# Altium integrated library LPC4357_SDRAM-BGA.IntLib: 27 symbols
Pins are listed as number, name and electrical type; pins without a type are passive.

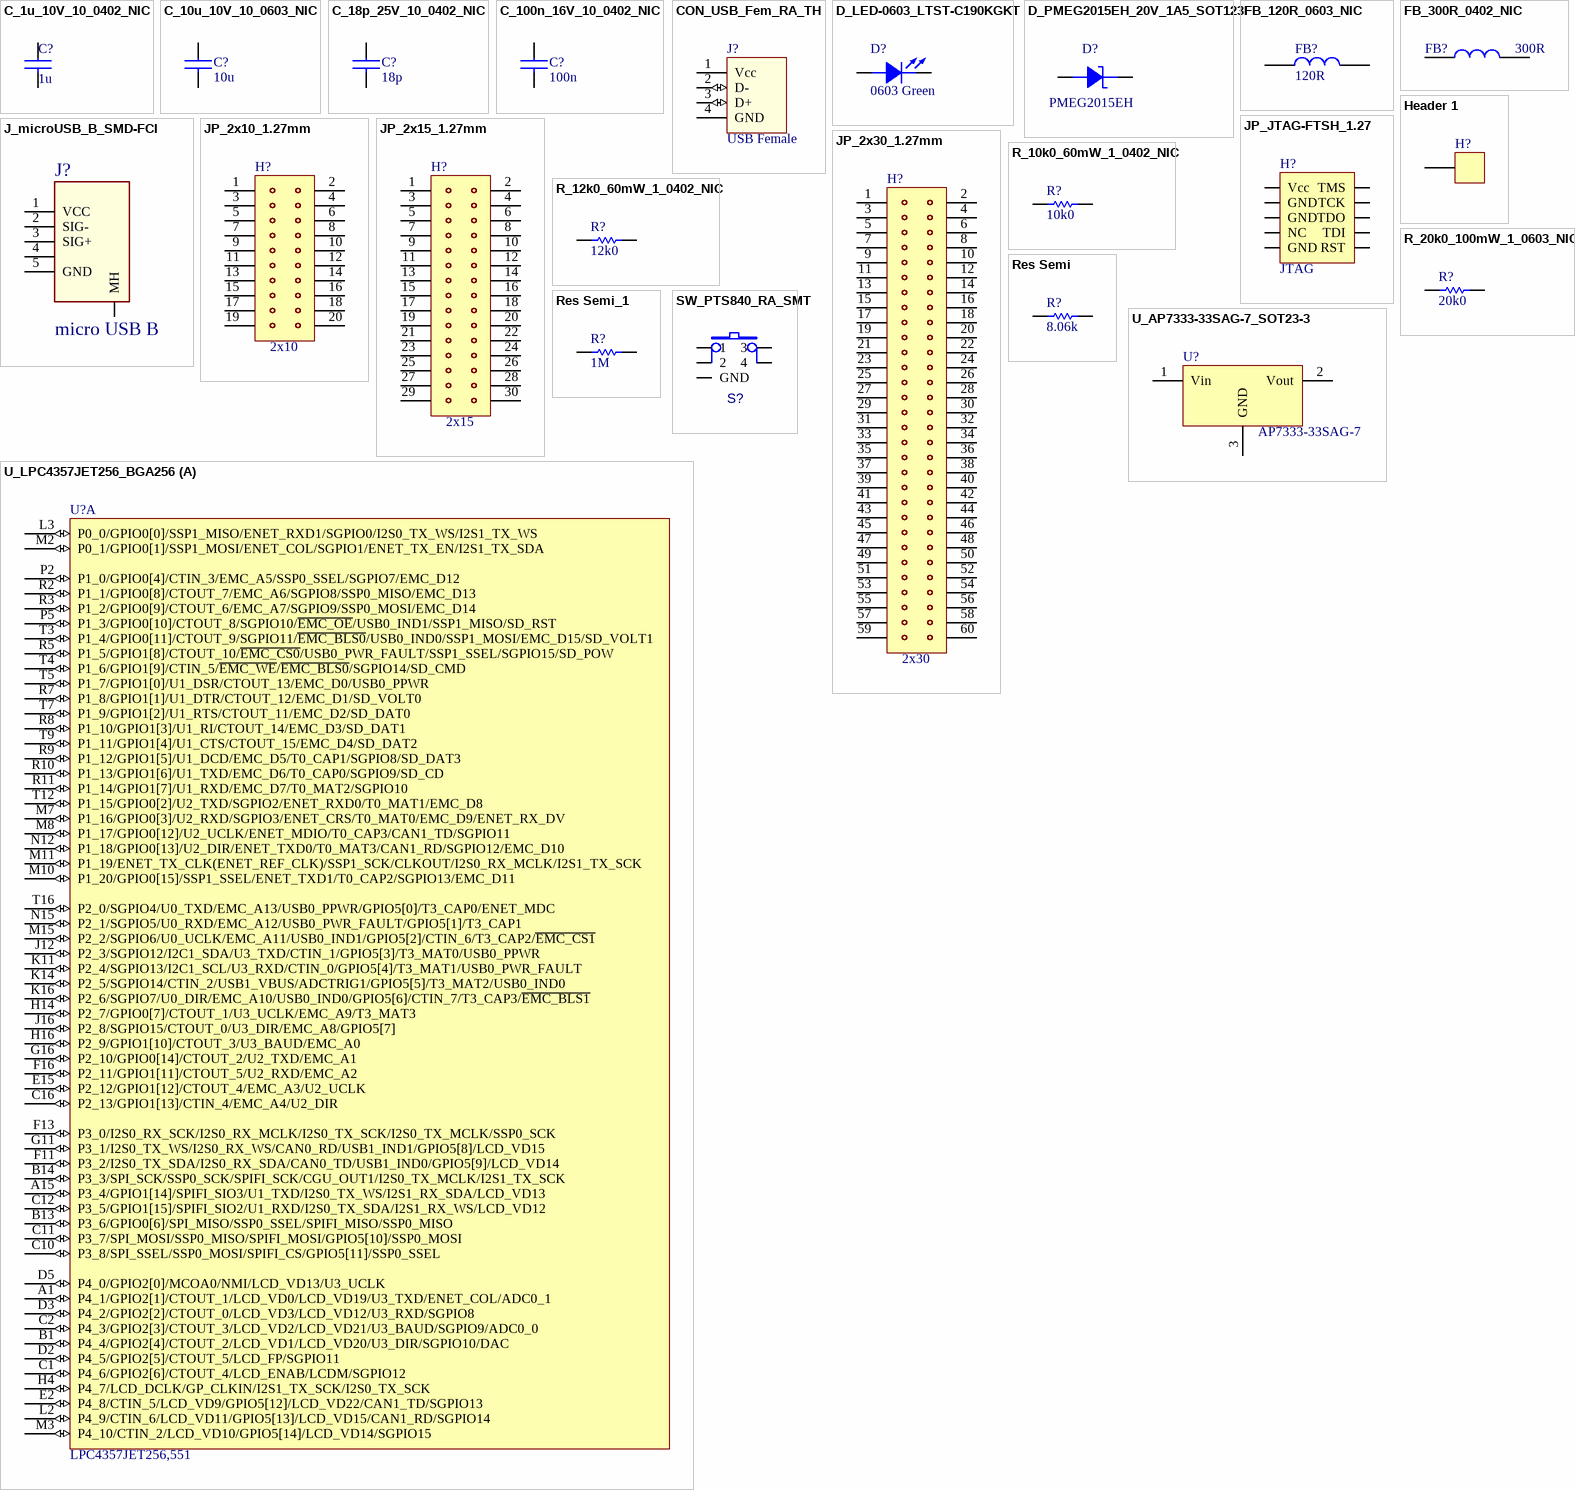
[diagram p0: symbols C_1u_10V_10_0402_NIC to U_LPC4357JET256_BGA256]

## C_1u_10V_10_0402_NIC
designator C?, comment 1u
Cap, Chip, 1uF, 10V, 10%, X5R, 0402; Manufacturer: NIC; Manufacturer_No: NMC0402X5R105K10TRPF; PB-free: Yes; IOT: IOT-; Dist_No: NMC0402X5R105K10TRPF; Distributor: Avnet; HelpURL: http://www.niccomp.com/catalog/nmc2.pdf; Price: 0.0056
footprint C_0402 (Capacitor 0402)
pins: 1, 2

## C_10u_10V_10_0603_NIC
designator C?, comment 10u
Cap, Chip, 10uF, 10V, ± 15%, X5R, 0603; Manufacturer: NIC; Manufacturer_No: NMC0603X5R106K10TRPF; PB-free: Yes; Dist_No: NMC0603X5R106K10TRPF; Distributor: NIC; HelpURL: http://www.niccomp.com/catalog/nmc1.pdf; Price: 0.02; IOT: IOT-0719
footprint C_0603 (Capacitor 0603)
footprint 0603x55 (0603 (1608) resistor 0.55mm height)
footprint 0603X90 (0603 (1608) capacitor 0.90 height)
pins: 1, 2

## C_18p_25V_10_0402_NIC
designator C?, comment 18p
Cap, Chip, 18pF, 25V, 10%, NPO 0402; Manufacturer: NIC; Manufacturer_No: NMC0402NPO180J25TRPF; HelpURL: http://www.niccomp.com/catalog/nmc1.pdf; IOT: IOT-0056
footprint C_0402 (Capacitor 0402)
pins: 1, 2

## C_100n_16V_10_0402_NIC
designator C?, comment 100n
Cap, Chip, 100nF, 16V, +/-10%, X7R, 0402; Manufacturer: NIC; Manufacturer_No: NMC0402X7R104K16TRPF; PB-free: Yes; HelpURL: http://www.niccomp.com/catalog/nmc3.pdf; IOT: IOT-0301
footprint C_0402 (Capacitor 0402)
pins: 1, 2

## CON_USB_Fem_RA_TH
designator J?, comment USB Female
USB A Female, RA, TH; Manufacturer: Venice Group; Manufacturer_No: USBAFDIP-024; Supplier 1: Digi-Key; Supplier Part Number 1: UE27AC54100-ND
footprint USB_A_F_RA_TH (Venice Group USB A Female, RA, TH)
pins: 1 Vcc (power) "Vbus", 2 D- (io) "Data -", 3 D+ (io) "Data +", 4 GND (power) "Ground"

## D_LED-0603_LTST-C190KGKT
designator D?, comment 0603 Green
0603 LED, Green; Manufacturer: Lite-on; Dist_No: LTST-C190KGKT; PB-free: Yes; Distributor: Avnet; Manufacturer_No: LTST-C190KGKT; HelpURL: http://optoelectronics.liteon.com/upload/download/DS22-2000-074/S_110_LTST-C190KGKT.pdf; Price: 0.0376; IOT: IOT-0171; Supplier 1: Digi-Key; Supplier Part Number 1: 160-1435-1-ND
footprint D_0603 (0603, 1.6 x 0.8mm, LED)
pins: 1 ANODE, 2 CATHODE

## D_PMEG2015EH_20V_1A5_SOT123F
designator D?, comment PMEG2015EH
Diode, Schottky Rectifier, 20V, 1.5A, SOT123F; Manufacturer: NXP Semiconductors; Manufacturer_No: PMEG2015EH T/R; Dist_No: 568-4116-1-ND; PB-free: Yes; Voltage: 20V; Distributor: DIGIKEY; HelpURL: http://www.nxp.com/acrobat_download/datasheets/PMEG2015EH_EJ_2.pdf; Price: 0.46000
footprint SOD123F (Footprint not found)
pins: 1 A, 2 K

## FB_120R_0603_NIC
designator FB?, comment 120R
Ferrite bead,120 ohm@100MHz,0.30 ohm @DC, 500mA, 0603; Manufacturer: NIC; Manufacturer_No: NCB0603R121TR060F; HelpURL: http://www.niccomp.com/catalog/ncb.pdf; Value: 120R; IOT: IOT-0083
footprint L_0603 (Inductior 0603)
footprint FB_0603-NIC (Ferrite Bead 0603)
pins: 1, 2

## FB_300R_0402_NIC
designator FB?, comment 300R
Ferrite bead,300 ohm@100MHz,0.15 ohm @DC, 1A, 0402; Manufacturer: NIC; Manufacturer_No: NCB-H0402P301TR100F; Distributor: NIC; Price: 0.01; HelpURL: http://www.niccomp.com/catalog/ncbh.pdf; Dist_No: NCB-H0402P301TR100F; Value: 300R; IOT: IOT-0720; Supplier 1: Digi-Key; Supplier Part Number 1: 490-5256-2-ND
footprint FB_0402-NIC (Chip Inductor, 2-Leads, Body 1.00x0.50mm, IPC High Density)
pins: 1, 2

## Header 1
designator H?
Header, 1-Pin
footprint HDR1X1
pins: 1

## J_microUSB_B_SMD-FCI
designator J?, comment micro USB B
CONN RECEPT MICRO USB RA 5POS SMD; Manufacturer: FCI; Manufacturer_No: 10118194
footprint 10118194 (FCI Micro USB B)
pins: 1 VCC, 2 SIG-, 3 SIG+, 4, 5 GND, MH "Shield"

## JP_2x10_1.27mm
designator H?, comment 2x10
CONN, Header, 2x10, TH, 1.27mm; PB-free: Yes; Price: 0.32
footprint HDR_2x10_1.27mm (LCSC 2x10 TH Female Header, 1.27mm pitch)
pins: 1, 2, 3, 4, 5, 6, 7, 8, 9, 10, 11, 12, 13, 14, 15, 16, 17, 18, 19, 20

## JP_2x15_1.27mm
designator H?, comment 2x15
CONN, Header, 2x15, TH, 1.27mm; PB-free: Yes; Distributor: LCSC; Price: 0.32; ComponentLink1Description: Datasheet; ComponentLink1URL: https://datasheet.lcsc.com/szlcsc/Shenzhen-Cankemeng-Female-header-2-30P-1-27mm-Straight-line_C124402.pdf
footprint HDR_2x15_1.27mm (LCSC 2x15 TH Female Header, 1.27mm pitch)
pins: 1, 2, 3, 4, 5, 6, 7, 8, 9, 10, 11, 12, 13, 14, 15, 16, 17, 18, 19, 20, 21, 22, 23, 24, 25, 26, 27, 28, 29, 30

## JP_2x30_1.27mm
designator H?, comment 2x30
CONN, Header, 2x30, TH, 1.27mm; Manufacturer: Shenzhen Cankemeng; Manufacturer_No: 220-1S-2*30; Dist_No: C124402; PB-free: Yes; Distributor: LCSC; Price: 0.32; HelpURL: https://lcsc.com/product-detail/Pin-Header-Female-Header_Shenzhen-Cankemeng-Female-header-2-30P-1-27mm-Straight-line_C124402.html; ComponentLink1Description: Datasheet; ComponentLink1URL: https://datasheet.lcsc.com/szlcsc/Shenzhen-Cankemeng-Female-header-2-30P-1-27mm-Straight-line_C124402.pdf
footprint HDR_2x30_1.27mm (LCSC 2x30 TH Female Header, 1.27mm pitch)
pins: 1, 2, 3, 4, 5, 6, 7, 8, 9, 10, 11, 12, 13, 14, 15, 16, 17, 18, 19, 20, 21, 22, 23, 24, 25, 26, 27, 28, 29, 30, 31, 32, 33, 34, 35, 36, 37, 38, 39, 40, 41, 42, 43, 44, 45, 46, 47, 48, 49, 50, 51, 52, 53, 54, 55, 56, 57, 58, 59, 60

## JP_JTAG-FTSH_1.27
designator H?, comment JTAG
CONN, Header 2x5, TH, 1.27mm; Manufacturer: Samtec; Manufacturer_No: FTSH-105-01-L-D-K; PB-free: Yes; Distributor: Heilind; Dist_No: FTSH-105-01-L-D-K; Price: $2.00; IOT: *
footprint JTAG_FTSH-105-01-XXX-D-K (ARM JTAG, Samtec FTSH-105-01-D-K)
pins: 1 Vcc, 2 TMS "Use PU", 3 GND, 4 TCK "Use PD", 5 GND, 6 TDO "Use PU", 7 NC, 8 TDI "Use PU", 9 GND, 10 RST "MCU Reset"

## R_10k0_60mW_1_0402_NIC
designator R?, comment 10k0
Resistor, 10.0 kΩ, 1%, 0.06W, 0402; Manufacturer_No: NRC04F1002TRF; Manufacturer: NIC; Value: 10k; HelpURL: http://www.niccomp.com/catalog/nrc.pdf; IOT: IOT-0100
footprint R_0402 (Resistor 0402)
simulation model Model Name (Model Description)
footprint R_0402-N (Chip Resistor, 2-Leads, Body 1.00x0.50mm, IPC High Density)
pins: 1, 2

## R_12k0_60mW_1_0402_NIC
designator R?, comment 12k0
Resistor 12.0 kΩ, 1%, 0.06W, 0402; Manufacturer_No: NRC04F1202TRF; Manufacturer: NIC; Value: 12k; HelpURL: http://www.niccomp.com/catalog/nrc.pdf; IOT: IOT-0101
footprint R_0402 (Resistor 0402)
simulation model Model Name (Model Description)
footprint R_0402-N (Chip Resistor, 2-Leads, Body 1.00x0.50mm, IPC High Density)
pins: 1, 2

## R_20k0_100mW_1_0603_NIC
designator R?, comment 20k0
Resistor 20 kOhm, 1%, 0.1W, 0603; Manufacturer_No: NRC06F2002TRF; Manufacturer: NIC; PB-free: Yes; Value: 20k; HelpURL: http://www.niccomp.com/catalog/nrc.pdf; Price: 0.0009
footprint R_0603 (Resistor0603)
simulation model Model Name (Model Description)
footprint R_0603 - NIC (Resistor 0603 NIC Pad Layout)
footprint RESC0603M (Chip Resistor, Body 0.6x0.3mm, IPC Low Density)
footprint RESC0603N (Chip Resistor, Body 0.6x0.3mm, IPC Medium Density)
footprint CR0603 (0603 (1608) resistor 0.55mm height)
footprint R_0402-N
pins: 1, 2

## Res Semi
designator R?, comment 8.06k
Resistor 8.06 kOhm, 1%, 0.1W, 0402; Value: 8k06
footprint RESC_0805
footprint R_0402 (Resistor 0402)
footprint R_0603 (Resistor0603)
footprint R_0603 - NIC (Resistor 0603 NIC Pad Layout)
footprint R_0805-small (Resistor, 0805, high density board design)
footprint R_1206 (Footprint 1206)
footprint R_0402-N (Chip Resistor, 2-Leads, Body 1.00x0.50mm, IPC High Density)
footprint CR0603 (0603 (1608) resistor 0.55mm height)
footprint Res_TH_9mm-spacing
pins: 1, 2

## Res Semi_1
designator R?, comment 1M
Semiconductor Resistor; Value: 33
footprint RESC_0805
footprint R_0402 (Resistor 0402)
footprint R_0603 (Resistor0603)
footprint R_0603 - NIC (Resistor 0603 NIC Pad Layout)
footprint R_0805-small (Resistor, 0805, high density board design)
footprint R_1206 (Footprint 1206)
footprint R_0402-N (Chip Resistor, 2-Leads, Body 1.00x0.50mm, IPC High Density)
footprint CR0603 (0603 (1608) resistor 0.55mm height)
footprint Res_TH_9mm-spacing
pins: 1, 2

## SW_PTS840_RA_SMT
designator S?, comment PTS840  (value not drawn)
SWITCH SPST RA, 50mA, 24V, SMT; Manufacturer: C&K; Manufacturer_No: PTS840 GKP SMTR LFS; PB-free: Yes; Distributor: Heilind; Dist_No: PTS840 GKP SMTR LFS; HelpURL: http://www.ckswitches.com/media/1477/pts840.pdf; Price: 0.19
footprint SW_PTS840 (C&K PTS840 SMT Side Tactile Switch)
pins: 1, 2, 3, 4, 5 GND

## U_AP7333-33SAG-7_SOT23-3
designator U?, comment AP7333-33SAG-7
IC, CONV DC/DC LDO 3.3V, 300mA, SOT23-3; Manufacturer: STMicroelectronics; Manufacturer_No: LD1117S33CTR; Dist_No: 497-1241-1-ND; PB-free: Yes; IOT: 1039711.0; Distributor: DIGIKEY; HelpURL: http://www.st.com/stonline/products/literature/ds/2572/ld1117xx.pdhttp://www.st.com/stonline/products/literature/ds/2572/ld1117xx.pdf; Price: 0.15; Supplier 1: Digi-Key; Supplier Part Number 1: 497-1241-1-ND; Supplier 2: Digi-Key; Supplier Part Number 2: 497-1241-2-ND; ComponentLink1Description: Datasheet; ComponentLink1URL: https://www.diodes.com/assets/Datasheets/AP7333.pdf
footprint SOT23_N
pins: 1 Vin (power), 2 Vout (power), 3 GND (power)

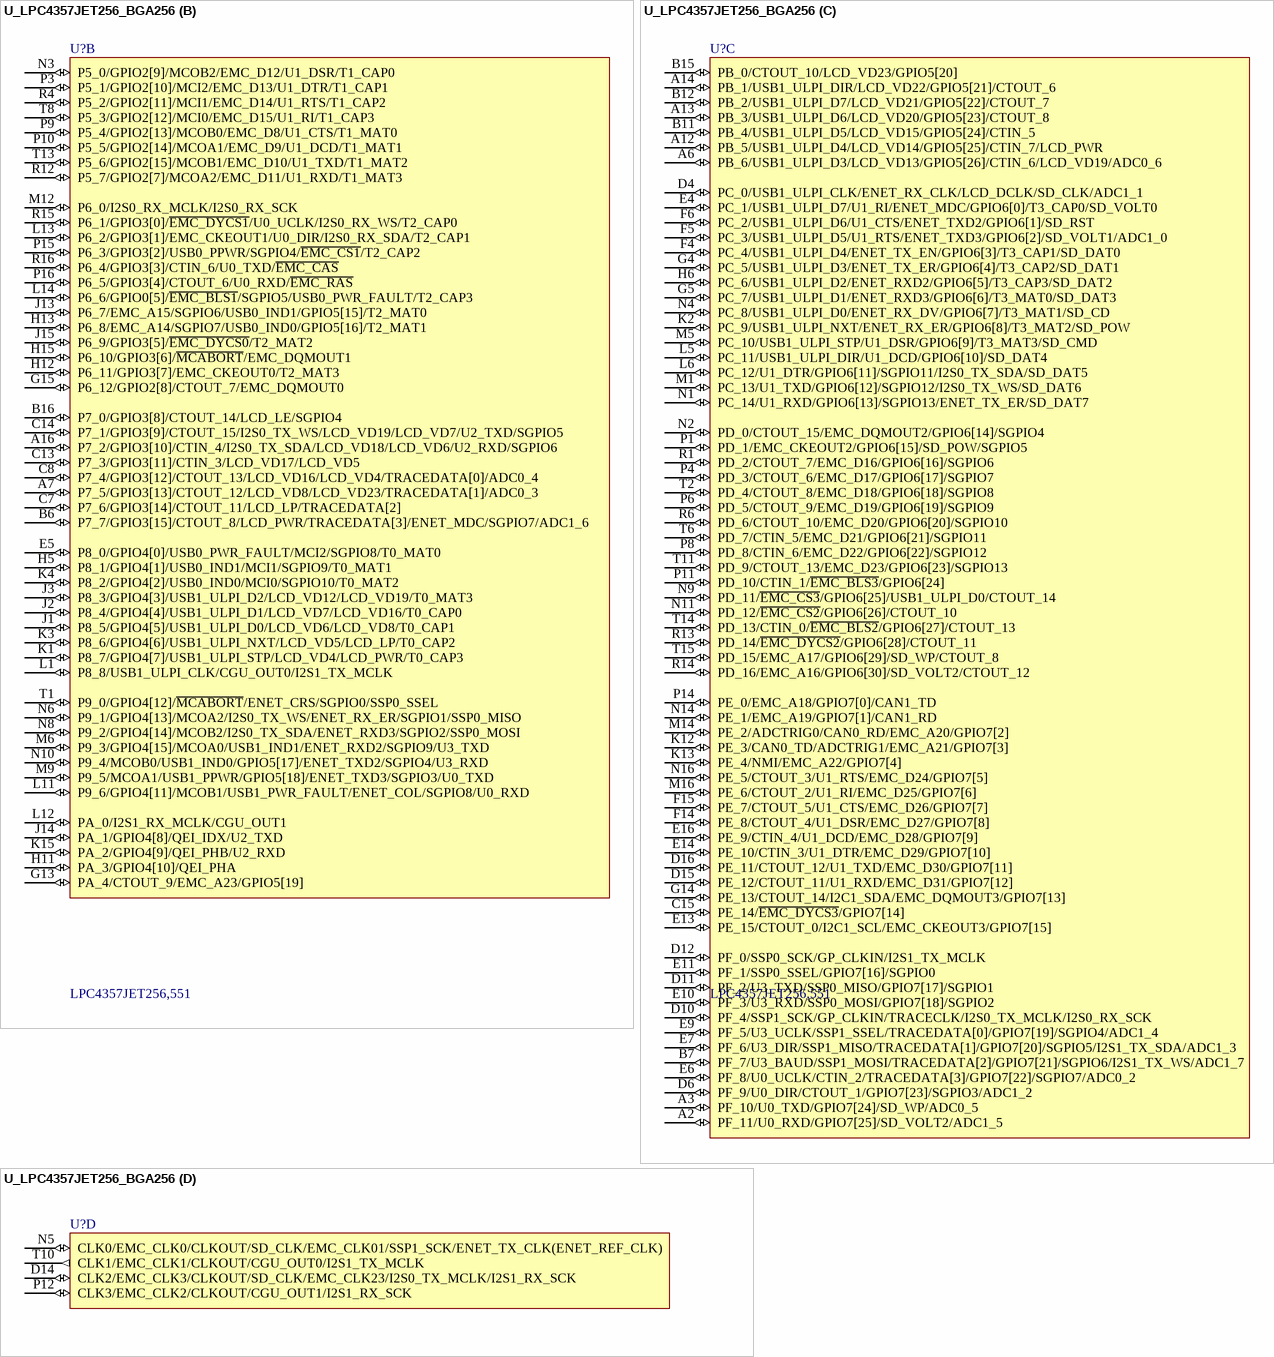
[diagram p1: symbol U_LPC4357JET256_BGA256]

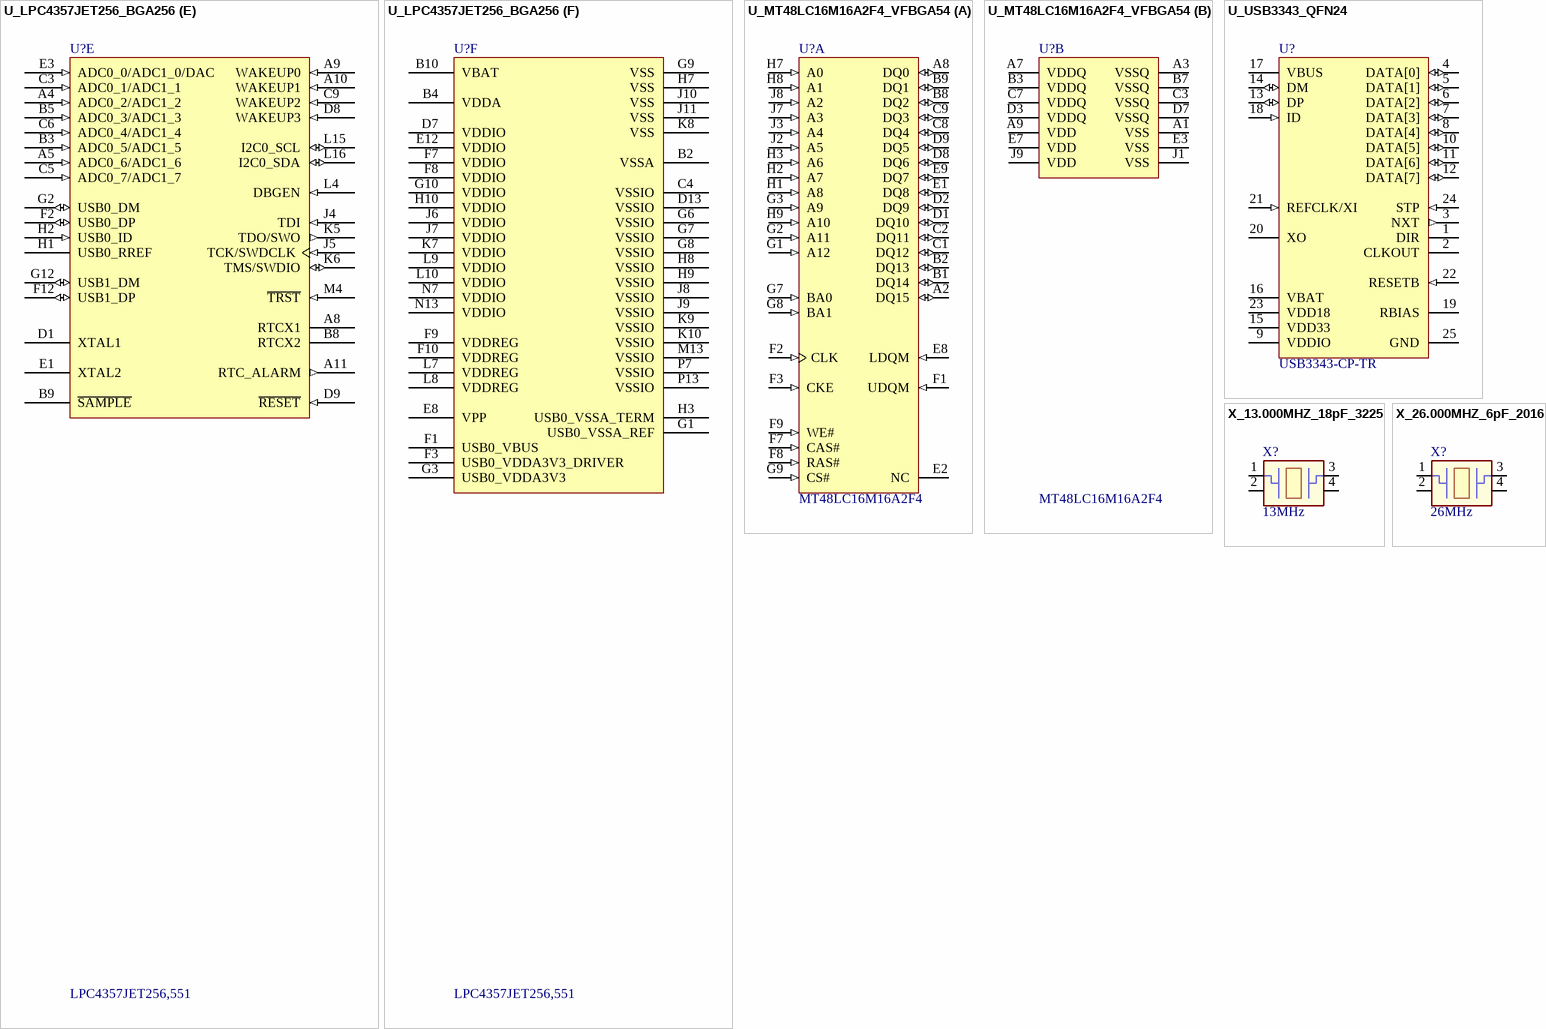
[diagram p2: symbols U_LPC4357JET256_BGA256 to X_26.000MHZ_6pF_2016]

## U_LPC4357JET256_BGA256
designator U?, comment LPC4357JET256,551
32-bit ARM Cortex-M4 / M0 Microcontroller, 164 I/O, 1024 KB Flash, 136 KB SRAM, -40 to 105 degC, 256-Ball LBGA, Tray, RoHS; Manufacturer: NXP Semiconductors; RAM: 136 KB; Clock Speed: 204 MHz max.; CAN: 2; Ethernet: 1; Flash: 1024 KB; ComponentLink1URL: www.nxp.com; ComponentLink1Description: Manufacturer URL; ComponentLink2Description: Datasheet; ComponentLink2URL: http://www.nxp.com/documents/data_sheet/LPC435X_3X_2X_1X.pdf; DatasheetVersion: Rev. 5; ComponentLink3URL: http://www.nxp.com/documents/outline_drawing/sot740-2_po.pdf; Code_JEDEC: MO-192; ComponentLink3Description: Package Specification; PartNumber: LPC4357JET256; Packing: Tray; Mounting Technology: Surface Mount; PackageVersion: 05-08-04, 08/2005; PackageDescription: 256-Ball Plastic Low Profile Ball Grid Array Package, Body 17 x 17 mm, Pitch 1 mm; LCD: 1; Core: Cortex-M4; USB: 2; Manufacturer 1: NXP Semiconductors; Manufacturer Part Number 1: LPC4357JET256,551
footprint NXP-SOT740-2
part A pins: A1 P4_1/GPIO2[1]/CTOUT_1/LCD_VD0/LCD_VD19/U3_TXD/ENET_COL/ADC0_1 (io), A15 P3_4/GPIO1[14]/SPIFI_SIO3/U1_TXD/I2S0_TX_WS/I2S1_RX_SDA/LCD_VD13 (io), B1 P4_4/GPIO2[4]/CTOUT_2/LCD_VD1/LCD_VD20/U3_DIR/SGPIO10/DAC (io), B13 P3_6/GPIO0[6]/SPI_MISO/SSP0_SSEL/SPIFI_MISO/SSP0_MISO (io), B14 P3_3/SPI_SCK/SSP0_SCK/SPIFI_SCK/CGU_OUT1/I2S0_TX_MCLK/I2S1_TX_SCK (io), C1 P4_6/GPIO2[6]/CTOUT_4/LCD_ENAB/LCDM/SGPIO12 (io), C2 P4_3/GPIO2[3]/CTOUT_3/LCD_VD2/LCD_VD21/U3_BAUD/SGPIO9/ADC0_0 (io), C10 P3_8/SPI_SSEL/SSP0_MOSI/SPIFI_CS/GPIO5[11]/SSP0_SSEL (io), C11 P3_7/SPI_MOSI/SSP0_MISO/SPIFI_MOSI/GPIO5[10]/SSP0_MOSI (io), C12 P3_5/GPIO1[15]/SPIFI_SIO2/U1_RXD/I2S0_TX_SDA/I2S1_RX_WS/LCD_VD12 (io), C16 P2_13/GPIO1[13]/CTIN_4/EMC_A4/U2_DIR (io), D2 P4_5/GPIO2[5]/CTOUT_5/LCD_FP/SGPIO11 (io), D3 P4_2/GPIO2[2]/CTOUT_0/LCD_VD3/LCD_VD12/U3_RXD/SGPIO8 (io), D5 P4_0/GPIO2[0]/MCOA0/NMI/LCD_VD13/U3_UCLK (io), E2 P4_8/CTIN_5/LCD_VD9/GPIO5[12]/LCD_VD22/CAN1_TD/SGPIO13 (io), E15 P2_12/GPIO1[12]/CTOUT_4/EMC_A3/U2_UCLK (io), F11 P3_2/I2S0_TX_SDA/I2S0_RX_SDA/CAN0_TD/USB1_IND0/GPIO5[9]/LCD_VD14 (io), F13 P3_0/I2S0_RX_SCK/I2S0_RX_MCLK/I2S0_TX_SCK/I2S0_TX_MCLK/SSP0_SCK (io), F16 P2_11/GPIO1[11]/CTOUT_5/U2_RXD/EMC_A2 (io), G11 P3_1/I2S0_TX_WS/I2S0_RX_WS/CAN0_RD/USB1_IND1/GPIO5[8]/LCD_VD15 (io), G16 P2_10/GPIO0[14]/CTOUT_2/U2_TXD/EMC_A1 (io), H4 P4_7/LCD_DCLK/GP_CLKIN/I2S1_TX_SCK/I2S0_TX_SCK (io), H14 P2_7/GPIO0[7]/CTOUT_1/U3_UCLK/EMC_A9/T3_MAT3 (io), H16 P2_9/GPIO1[10]/CTOUT_3/U3_BAUD/EMC_A0 (io), J12 P2_3/SGPIO12/I2C1_SDA/U3_TXD/CTIN_1/GPIO5[3]/T3_MAT0/USB0_PPWR (io), J16 P2_8/SGPIO15/CTOUT_0/U3_DIR/EMC_A8/GPIO5[7] (io), K11 P2_4/SGPIO13/I2C1_SCL/U3_RXD/CTIN_0/GPIO5[4]/T3_MAT1/USB0_PWR_FAULT (io), K14 P2_5/SGPIO14/CTIN_2/USB1_VBUS/ADCTRIG1/GPIO5[5]/T3_MAT2/USB0_IND0 (io), K16 P2_6/SGPIO7/U0_DIR/EMC_A10/USB0_IND0/GPIO5[6]/CTIN_7/T3_CAP3/~{EMC_BLS1} (io), L2 P4_9/CTIN_6/LCD_VD11/GPIO5[13]/LCD_VD15/CAN1_RD/SGPIO14 (io), L3 P0_0/GPIO0[0]/SSP1_MISO/ENET_RXD1/SGPIO0/I2S0_TX_WS/I2S1_TX_WS (io), M2 P0_1/GPIO0[1]/SSP1_MOSI/ENET_COL/SGPIO1/ENET_TX_EN/I2S1_TX_SDA (io), M3 P4_10/CTIN_2/LCD_VD10/GPIO5[14]/LCD_VD14/SGPIO15 (io), M7 P1_16/GPIO0[3]/U2_RXD/SGPIO3/ENET_CRS/T0_MAT0/EMC_D9/ENET_RX_DV (io), M8 P1_17/GPIO0[12]/U2_UCLK/ENET_MDIO/T0_CAP3/CAN1_TD/SGPIO11 (io), M10 P1_20/GPIO0[15]/SSP1_SSEL/ENET_TXD1/T0_CAP2/SGPIO13/EMC_D11 (io), M11 P1_19/ENET_TX_CLK(ENET_REF_CLK)/SSP1_SCK/CLKOUT/I2S0_RX_MCLK/I2S1_TX_SCK (io), M15 P2_2/SGPIO6/U0_UCLK/EMC_A11/USB0_IND1/GPIO5[2]/CTIN_6/T3_CAP2/~{EMC_CS1} (io), N12 P1_18/GPIO0[13]/U2_DIR/ENET_TXD0/T0_MAT3/CAN1_RD/SGPIO12/EMC_D10 (io), N15 P2_1/SGPIO5/U0_RXD/EMC_A12/USB0_PWR_FAULT/GPIO5[1]/T3_CAP1 (io), P2 P1_0/GPIO0[4]/CTIN_3/EMC_A5/SSP0_SSEL/SGPIO7/EMC_D12 (io), P5 P1_3/GPIO0[10]/CTOUT_8/SGPIO10/~{EMC_OE}/USB0_IND1/SSP1_MISO/SD_RST (io), R2 P1_1/GPIO0[8]/CTOUT_7/EMC_A6/SGPIO8/SSP0_MISO/EMC_D13 (io), R3 P1_2/GPIO0[9]/CTOUT_6/EMC_A7/SGPIO9/SSP0_MOSI/EMC_D14 (io), R5 P1_5/GPIO1[8]/CTOUT_10/~{EMC_CS0}/USB0_PWR_FAULT/SSP1_SSEL/SGPIO15/SD_POW (io), R7 P1_8/GPIO1[1]/U1_DTR/CTOUT_12/EMC_D1/SD_VOLT0 (io), R8 P1_10/GPIO1[3]/U1_RI/CTOUT_14/EMC_D3/SD_DAT1 (io), R9 P1_12/GPIO1[5]/U1_DCD/EMC_D5/T0_CAP1/SGPIO8/SD_DAT3 (io), R10 P1_13/GPIO1[6]/U1_TXD/EMC_D6/T0_CAP0/SGPIO9/SD_CD (io), R11 P1_14/GPIO1[7]/U1_RXD/EMC_D7/T0_MAT2/SGPIO10 (io), T3 P1_4/GPIO0[11]/CTOUT_9/SGPIO11/~{EMC_BLS0}/USB0_IND0/SSP1_MOSI/EMC_D15/SD_VOLT1 (io), T4 P1_6/GPIO1[9]/CTIN_5/~{EMC_WE}/~{EMC_BLS0}/SGPIO14/SD_CMD (io), T5 P1_7/GPIO1[0]/U1_DSR/CTOUT_13/EMC_D0/USB0_PPWR (io), T7 P1_9/GPIO1[2]/U1_RTS/CTOUT_11/EMC_D2/SD_DAT0 (io), T9 P1_11/GPIO1[4]/U1_CTS/CTOUT_15/EMC_D4/SD_DAT2 (io), T12 P1_15/GPIO0[2]/U2_TXD/SGPIO2/ENET_RXD0/T0_MAT1/EMC_D8 (io), T16 P2_0/SGPIO4/U0_TXD/EMC_A13/USB0_PPWR/GPIO5[0]/T3_CAP0/ENET_MDC (io)
part B pins: A7 P7_5/GPIO3[13]/CTOUT_12/LCD_VD8/LCD_VD23/TRACEDATA[1]/ADC0_3 (io), A16 P7_2/GPIO3[10]/CTIN_4/I2S0_TX_SDA/LCD_VD18/LCD_VD6/U2_RXD/SGPIO6 (io), B6 P7_7/GPIO3[15]/CTOUT_8/LCD_PWR/TRACEDATA[3]/ENET_MDC/SGPIO7/ADC1_6 (io), B16 P7_0/GPIO3[8]/CTOUT_14/LCD_LE/SGPIO4 (io), C7 P7_6/GPIO3[14]/CTOUT_11/LCD_LP/TRACEDATA[2] (io), C8 P7_4/GPIO3[12]/CTOUT_13/LCD_VD16/LCD_VD4/TRACEDATA[0]/ADC0_4 (io), C13 P7_3/GPIO3[11]/CTIN_3/LCD_VD17/LCD_VD5 (io), C14 P7_1/GPIO3[9]/CTOUT_15/I2S0_TX_WS/LCD_VD19/LCD_VD7/U2_TXD/SGPIO5 (io), E5 P8_0/GPIO4[0]/USB0_PWR_FAULT/MCI2/SGPIO8/T0_MAT0 (io), G13 PA_4/CTOUT_9/EMC_A23/GPIO5[19] (io), G15 P6_12/GPIO2[8]/CTOUT_7/EMC_DQMOUT0 (io), H5 P8_1/GPIO4[1]/USB0_IND1/MCI1/SGPIO9/T0_MAT1 (io), H11 PA_3/GPIO4[10]/QEI_PHA (io), H12 P6_11/GPIO3[7]/EMC_CKEOUT0/T2_MAT3 (io), H13 P6_8/EMC_A14/SGPIO7/USB0_IND0/GPIO5[16]/T2_MAT1 (io), H15 P6_10/GPIO3[6]/~{MCABORT}/EMC_DQMOUT1 (io), J1 P8_5/GPIO4[5]/USB1_ULPI_D0/LCD_VD6/LCD_VD8/T0_CAP1 (io), J2 P8_4/GPIO4[4]/USB1_ULPI_D1/LCD_VD7/LCD_VD16/T0_CAP0 (io), J3 P8_3/GPIO4[3]/USB1_ULPI_D2/LCD_VD12/LCD_VD19/T0_MAT3 (io), J13 P6_7/EMC_A15/SGPIO6/USB0_IND1/GPIO5[15]/T2_MAT0 (io), J14 PA_1/GPIO4[8]/QEI_IDX/U2_TXD (io), J15 P6_9/GPIO3[5]/~{EMC_DYCS0}/T2_MAT2 (io), K1 P8_7/GPIO4[7]/USB1_ULPI_STP/LCD_VD4/LCD_PWR/T0_CAP3 (io), K3 P8_6/GPIO4[6]/USB1_ULPI_NXT/LCD_VD5/LCD_LP/T0_CAP2 (io), K4 P8_2/GPIO4[2]/USB0_IND0/MCI0/SGPIO10/T0_MAT2 (io), K15 PA_2/GPIO4[9]/QEI_PHB/U2_RXD (io), L1 P8_8/USB1_ULPI_CLK/CGU_OUT0/I2S1_TX_MCLK (io), L11 P9_6/GPIO4[11]/MCOB1/USB1_PWR_FAULT/ENET_COL/SGPIO8/U0_RXD (io), L12 PA_0/I2S1_RX_MCLK/CGU_OUT1 (io), L13 P6_2/GPIO3[1]/EMC_CKEOUT1/U0_DIR/I2S0_RX_SDA/T2_CAP1 (io), L14 P6_6/GPIO0[5]/~{EMC_BLS1}/SGPIO5/USB0_PWR_FAULT/T2_CAP3 (io), M6 P9_3/GPIO4[15]/MCOA0/USB1_IND1/ENET_RXD2/SGPIO9/U3_TXD (io), M9 P9_5/MCOA1/USB1_PPWR/GPIO5[18]/ENET_TXD3/SGPIO3/U0_TXD (io), M12 P6_0/I2S0_RX_MCLK/I2S0_RX_SCK (io), N3 P5_0/GPIO2[9]/MCOB2/EMC_D12/U1_DSR/T1_CAP0 (io), N6 P9_1/GPIO4[13]/MCOA2/I2S0_TX_WS/ENET_RX_ER/SGPIO1/SSP0_MISO (io), N8 P9_2/GPIO4[14]/MCOB2/I2S0_TX_SDA/ENET_RXD3/SGPIO2/SSP0_MOSI (io), N10 P9_4/MCOB0/USB1_IND0/GPIO5[17]/ENET_TXD2/SGPIO4/U3_RXD (io), P3 P5_1/GPIO2[10]/MCI2/EMC_D13/U1_DTR/T1_CAP1 (io), P9 P5_4/GPIO2[13]/MCOB0/EMC_D8/U1_CTS/T1_MAT0 (io), P10 P5_5/GPIO2[14]/MCOA1/EMC_D9/U1_DCD/T1_MAT1 (io), P15 P6_3/GPIO3[2]/USB0_PPWR/SGPIO4/~{EMC_CS1}/T2_CAP2 (io), P16 P6_5/GPIO3[4]/CTOUT_6/U0_RXD/~{EMC_RAS} (io), R4 P5_2/GPIO2[11]/MCI1/EMC_D14/U1_RTS/T1_CAP2 (io), R12 P5_7/GPIO2[7]/MCOA2/EMC_D11/U1_RXD/T1_MAT3 (io), R15 P6_1/GPIO3[0]/~{EMC_DYCS1}/U0_UCLK/I2S0_RX_WS/T2_CAP0 (io), R16 P6_4/GPIO3[3]/CTIN_6/U0_TXD/~{EMC_CAS} (io), T1 P9_0/GPIO4[12]/~{MCABORT}/ENET_CRS/SGPIO0/SSP0_SSEL (io), T8 P5_3/GPIO2[12]/MCI0/EMC_D15/U1_RI/T1_CAP3 (io), T13 P5_6/GPIO2[15]/MCOB1/EMC_D10/U1_TXD/T1_MAT2 (io)
part C pins: A2 PF_11/U0_RXD/GPIO7[25]/SD_VOLT2/ADC1_5 (io), A3 PF_10/U0_TXD/GPIO7[24]/SD_WP/ADC0_5 (io), A6 PB_6/USB1_ULPI_D3/LCD_VD13/GPIO5[26]/CTIN_6/LCD_VD19/ADC0_6 (io), A12 PB_5/USB1_ULPI_D4/LCD_VD14/GPIO5[25]/CTIN_7/LCD_PWR (io), A13 PB_3/USB1_ULPI_D6/LCD_VD20/GPIO5[23]/CTOUT_8 (io), A14 PB_1/USB1_ULPI_DIR/LCD_VD22/GPIO5[21]/CTOUT_6 (io), B7 PF_7/U3_BAUD/SSP1_MOSI/TRACEDATA[2]/GPIO7[21]/SGPIO6/I2S1_TX_WS/ADC1_7 (io), B11 PB_4/USB1_ULPI_D5/LCD_VD15/GPIO5[24]/CTIN_5 (io), B12 PB_2/USB1_ULPI_D7/LCD_VD21/GPIO5[22]/CTOUT_7 (io), B15 PB_0/CTOUT_10/LCD_VD23/GPIO5[20] (io), C15 PE_14/~{EMC_DYCS3}/GPIO7[14] (io), D4 PC_0/USB1_ULPI_CLK/ENET_RX_CLK/LCD_DCLK/SD_CLK/ADC1_1 (io), D6 PF_9/U0_DIR/CTOUT_1/GPIO7[23]/SGPIO3/ADC1_2 (io), D10 PF_4/SSP1_SCK/GP_CLKIN/TRACECLK/I2S0_TX_MCLK/I2S0_RX_SCK (io), D11 PF_2/U3_TXD/SSP0_MISO/GPIO7[17]/SGPIO1 (io), D12 PF_0/SSP0_SCK/GP_CLKIN/I2S1_TX_MCLK (io), D15 PE_12/CTOUT_11/U1_RXD/EMC_D31/GPIO7[12] (io), D16 PE_11/CTOUT_12/U1_TXD/EMC_D30/GPIO7[11] (io), E4 PC_1/USB1_ULPI_D7/U1_RI/ENET_MDC/GPIO6[0]/T3_CAP0/SD_VOLT0 (io), E6 PF_8/U0_UCLK/CTIN_2/TRACEDATA[3]/GPIO7[22]/SGPIO7/ADC0_2 (io), E7 PF_6/U3_DIR/SSP1_MISO/TRACEDATA[1]/GPIO7[20]/SGPIO5/I2S1_TX_SDA/ADC1_3 (io), E9 PF_5/U3_UCLK/SSP1_SSEL/TRACEDATA[0]/GPIO7[19]/SGPIO4/ADC1_4 (io), E10 PF_3/U3_RXD/SSP0_MOSI/GPIO7[18]/SGPIO2 (io), E11 PF_1/SSP0_SSEL/GPIO7[16]/SGPIO0 (io), E13 PE_15/CTOUT_0/I2C1_SCL/EMC_CKEOUT3/GPIO7[15] (io), E14 PE_10/CTIN_3/U1_DTR/EMC_D29/GPIO7[10] (io), E16 PE_9/CTIN_4/U1_DCD/EMC_D28/GPIO7[9] (io), F4 PC_4/USB1_ULPI_D4/ENET_TX_EN/GPIO6[3]/T3_CAP1/SD_DAT0 (io), F5 PC_3/USB1_ULPI_D5/U1_RTS/ENET_TXD3/GPIO6[2]/SD_VOLT1/ADC1_0 (io), F6 PC_2/USB1_ULPI_D6/U1_CTS/ENET_TXD2/GPIO6[1]/SD_RST (io), F14 PE_8/CTOUT_4/U1_DSR/EMC_D27/GPIO7[8] (io), F15 PE_7/CTOUT_5/U1_CTS/EMC_D26/GPIO7[7] (io), G4 PC_5/USB1_ULPI_D3/ENET_TX_ER/GPIO6[4]/T3_CAP2/SD_DAT1 (io), G5 PC_7/USB1_ULPI_D1/ENET_RXD3/GPIO6[6]/T3_MAT0/SD_DAT3 (io), G14 PE_13/CTOUT_14/I2C1_SDA/EMC_DQMOUT3/GPIO7[13] (io), H6 PC_6/USB1_ULPI_D2/ENET_RXD2/GPIO6[5]/T3_CAP3/SD_DAT2 (io), K2 PC_9/USB1_ULPI_NXT/ENET_RX_ER/GPIO6[8]/T3_MAT2/SD_POW (io), K12 PE_3/CAN0_TD/ADCTRIG1/EMC_A21/GPIO7[3] (io), K13 PE_4/NMI/EMC_A22/GPIO7[4] (io), L5 PC_11/USB1_ULPI_DIR/U1_DCD/GPIO6[10]/SD_DAT4 (io), L6 PC_12/U1_DTR/GPIO6[11]/SGPIO11/I2S0_TX_SDA/SD_DAT5 (io), M1 PC_13/U1_TXD/GPIO6[12]/SGPIO12/I2S0_TX_WS/SD_DAT6 (io), M5 PC_10/USB1_ULPI_STP/U1_DSR/GPIO6[9]/T3_MAT3/SD_CMD (io), M14 PE_2/ADCTRIG0/CAN0_RD/EMC_A20/GPIO7[2] (io), M16 PE_6/CTOUT_2/U1_RI/EMC_D25/GPIO7[6] (io), N1 PC_14/U1_RXD/GPIO6[13]/SGPIO13/ENET_TX_ER/SD_DAT7 (io), N2 PD_0/CTOUT_15/EMC_DQMOUT2/GPIO6[14]/SGPIO4 (io), N4 PC_8/USB1_ULPI_D0/ENET_RX_DV/GPIO6[7]/T3_MAT1/SD_CD (io), N9 PD_11/~{EMC_CS3}/GPIO6[25]/USB1_ULPI_D0/CTOUT_14 (io), N11 PD_12/~{EMC_CS2}/GPIO6[26]/CTOUT_10 (io), N14 PE_1/EMC_A19/GPIO7[1]/CAN1_RD (io), N16 PE_5/CTOUT_3/U1_RTS/EMC_D24/GPIO7[5] (io), P1 PD_1/EMC_CKEOUT2/GPIO6[15]/SD_POW/SGPIO5 (io), P4 PD_3/CTOUT_6/EMC_D17/GPIO6[17]/SGPIO7 (io), P6 PD_5/CTOUT_9/EMC_D19/GPIO6[19]/SGPIO9 (io), P8 PD_8/CTIN_6/EMC_D22/GPIO6[22]/SGPIO12 (io), P11 PD_10/CTIN_1/~{EMC_BLS3}/GPIO6[24] (io), P14 PE_0/EMC_A18/GPIO7[0]/CAN1_TD (io), R1 PD_2/CTOUT_7/EMC_D16/GPIO6[16]/SGPIO6 (io), R6 PD_6/CTOUT_10/EMC_D20/GPIO6[20]/SGPIO10 (io), R13 PD_14/~{EMC_DYCS2}/GPIO6[28]/CTOUT_11 (io), R14 PD_16/EMC_A16/GPIO6[30]/SD_VOLT2/CTOUT_12 (io), T2 PD_4/CTOUT_8/EMC_D18/GPIO6[18]/SGPIO8 (io), T6 PD_7/CTIN_5/EMC_D21/GPIO6[21]/SGPIO11 (io), T11 PD_9/CTOUT_13/EMC_D23/GPIO6[23]/SGPIO13 (io), T14 PD_13/CTIN_0/~{EMC_BLS2}/GPIO6[27]/CTOUT_13 (io), T15 PD_15/EMC_A17/GPIO6[29]/SD_WP/CTOUT_8 (io)
part D pins: D14 CLK2/EMC_CLK3/CLKOUT/SD_CLK/EMC_CLK23/I2S0_TX_MCLK/I2S1_RX_SCK (io), N5 CLK0/EMC_CLK0/CLKOUT/SD_CLK/EMC_CLK01/SSP1_SCK/ENET_TX_CLK(ENET_REF_CLK) (io), P12 CLK3/EMC_CLK2/CLKOUT/CGU_OUT1/I2S1_RX_SCK (io), T10 CLK1/EMC_CLK1/CLKOUT/CGU_OUT0/I2S1_TX_MCLK (out)
part E pins: A4 ADC0_2/ADC1_2 (in), A5 ADC0_6/ADC1_6 (in), A8 RTCX1 "Input to the RTC 32 kHz ultra-low power oscillator circuit.", A9 WAKEUP0 (in) "External wake-up input; can raise an interrupt and can cause wake-up from any of the low power modes. A pulse with a duration of at least 45 ns wakes up the part. Input 0 of the event monitor.No internal pull-up is enabled (See Datasheet)", A10 WAKEUP1 (in) "External wake-up input; can raise an interrupt and can cause wake-up from any of the low power modes. A pulse with a duration of at least 45 ns wakes up the part. Input 1 of the event monitor. No internal pull-up is enabled (See Datasheet)", A11 RTC_ALARM (out) "RTC controlled output.", B3 ADC0_5/ADC1_5 (in), B5 ADC0_3/ADC1_3 (in), B8 RTCX2 "Output from the RTC 32 kHz ultra-low power oscillator circuit.", B9 ~{SAMPLE} "Event monitor sample output.", C3 ADC0_1/ADC1_1 (in), C5 ADC0_7/ADC1_7 (in), C6 ADC0_4/ADC1_4 (in), C9 WAKEUP2 (in) "External wake-up input; can raise an interrupt and can cause wake-up from any of the low power modes. A pulse with a duration of at least 45 ns wakes up the part. Input 2 of the event monitor. This pin does not have an (See Datasheet)", D1 XTAL1 "Input to the oscillator circuit and internal clock generator circuits.", D8 WAKEUP3 (in) "External wake-up input; can raise an interrupt and can cause wake-up from any of the low power modes. A pulse with a duration of at least 45 ns wakes up the part. This pin does not have an internal pull-up.", D9 ~{RESET} (in) "External reset input: A LOW on this pin resets the device, causing I/O ports and peripherals to take on their default states, and processor execution to begin at address 0. This pin does not have an internal pull-up.", E1 XTAL2 "Output from the oscillator amplifier", E3 ADC0_0/ADC1_0/DAC (in), F2 USB0_DP (io) "USB0 bidirectional D+ line. Do not add an external series resistor.", F12 USB1_DP (io) "USB1 bidirectional D+ line. Add an external series resistor of 33 ohm +/- 2 %.", G2 USB0_DM (io) "USB0 bidirectional D- line. Do not add an external series resistor.", G12 USB1_DM (io) "USB1 bidirectional D- line. Add an external series resistor of 33 ohm +/- 2 %.", H1 USB0_RREF "12.0 kohm (accuracy 1 %) on-board resistor to ground for current reference.", H2 USB0_ID (in) "Indicates to the transceiver whether connected as an A-device (USB0_ID LOW) or B-device (USB0_ID HIGH). For OTG this pin has an internal pull-up resistor.", J4 TDI (in) "Test Data In for JTAG interface.", J5 TCK/SWDCLK (in), K5 TDO/SWO (out), K6 TMS/SWDIO (io), L4 DBGEN (in) "JTAG interface control signal.", L15 I2C0_SCL (io) "I2C clock input/output. Open-drain output (for I2C-bus compliance).", L16 I2C0_SDA (io) "I2C data input/output. Open-drain output (for I2C-bus compliance).", M4 ~{TRST} (in) "Test Reset for JTAG interface."
part F pins: B2 VSSA (power) "Analog ground.", B4 VDDA (power) "Analog power supply and ADC reference voltage", B10 VBAT (power) "RTC power supply: 3.3 V on this pin supplies power to the RTC.", C4 VSSIO (power) "Ground.", D7 VDDIO (power) "I/O power supply. Tie the VDDREG and VDDIO pins to a common power supply to ensure the same ramp-up time for both supply voltages.", D13 VSSIO (power) "Ground.", E8 VPP (power) "OTP programming voltage.", E12 VDDIO (power) "I/O power supply. Tie the VDDREG and VDDIO pins to a common power supply to ensure the same ramp-up time for both supply voltages.", F1 USB0_VBUS (power) "VBUS pin (power on USB cable). This pin includes an internal pull-down resistor of 64 kohm (typical) +/- 16 kohm.", F3 USB0_VDDA3V3_DRIVER (power) "Separate analog 3.3 V power supply for driver.", F7 VDDIO (power) "I/O power supply. Tie the VDDREG and VDDIO pins to a common power supply to ensure the same ramp-up time for both supply voltages.", F8 VDDIO (power) "I/O power supply. Tie the VDDREG and VDDIO pins to a common power supply to ensure the same ramp-up time for both supply voltages.", F9 VDDREG (power) "Main regulator power supply. Tie the VDDREG and VDDIO pins to a common power supply to ensure the same ramp-up time for both supply voltages.", F10 VDDREG (power) "Main regulator power supply. Tie the VDDREG and VDDIO pins to a common power supply to ensure the same ramp-up time for both supply voltages.", G1 USB0_VSSA_REF (power) "Dedicated clean analog ground for generation of reference currents and voltages.", G3 USB0_VDDA3V3 (power) "USB 3.3 V separate power supply voltage.", G6 VSSIO (power) "Ground.", G7 VSSIO (power) "Ground.", G8 VSSIO (power) "Ground.", G9 VSS (power) "Ground.", G10 VDDIO (power) "I/O power supply. Tie the VDDREG and VDDIO pins to a common power supply to ensure the same ramp-up time for both supply voltages.", H3 USB0_VSSA_TERM (power) "Dedicated analog ground for clean reference for termination resistors.", H7 VSS (power) "Ground.", H8 VSSIO (power) "Ground.", H9 VSSIO (power) "Ground.", H10 VDDIO (power) "I/O power supply. Tie the VDDREG and VDDIO pins to a common power supply to ensure the same ramp-up time for both supply voltages.", J6 VDDIO (power) "I/O power supply. Tie the VDDREG and VDDIO pins to a common power supply to ensure the same ramp-up time for both supply voltages.", J7 VDDIO (power) "I/O power supply. Tie the VDDREG and VDDIO pins to a common power supply to ensure the same ramp-up time for both supply voltages.", J8 VSSIO (power) "Ground.", J9 VSSIO (power) "Ground.", J10 VSS (power) "Ground.", J11 VSS (power) "Ground.", K7 VDDIO (power) "I/O power supply. Tie the VDDREG and VDDIO pins to a common power supply to ensure the same ramp-up time for both supply voltages.", K8 VSS (power) "Ground.", K9 VSSIO (power) "Ground.", K10 VSSIO (power) "Ground.", L7 VDDREG (power) "Main regulator power supply. Tie the VDDREG and VDDIO pins to a common power supply to ensure the same ramp-up time for both supply voltages.", L8 VDDREG (power) "Main regulator power supply. Tie the VDDREG and VDDIO pins to a common power supply to ensure the same ramp-up time for both supply voltages.", L9 VDDIO (power) "I/O power supply. Tie the VDDREG and VDDIO pins to a common power supply to ensure the same ramp-up time for both supply voltages.", L10 VDDIO (power) "I/O power supply. Tie the VDDREG and VDDIO pins to a common power supply to ensure the same ramp-up time for both supply voltages.", M13 VSSIO (power) "Ground.", N7 VDDIO (power) "I/O power supply. Tie the VDDREG and VDDIO pins to a common power supply to ensure the same ramp-up time for both supply voltages.", N13 VDDIO (power) "I/O power supply. Tie the VDDREG and VDDIO pins to a common power supply to ensure the same ramp-up time for both supply voltages.", P7 VSSIO (power) "Ground.", P13 VSSIO (power) "Ground."

## U_MT48LC16M16A2F4_VFBGA54
designator U?, comment MT48LC16M16A2F4
256Mb PC133 SDR SDRAM, 16Mb x 16, 7.5ns, 3.3V, 0 to 70 degC, 54-Ball VFBGA, Pb-Free; PartNumber: MT48LC16M16A2BG-75; Manufacturer: Micron; Manufacturer 1: Micron Technology; Op. Temp.: 0C to +70C; CL: CL = 3; Clock Rate: 133 MHz; PackageDescription: 54-Ball Fine-Pitch Ball Grid Array, 14 x 8 mm, Pitch 0.8 mm; ComponentLink3Description: Package Specification; Mounting Technology: Surface Mount; PackageVersion: Rev.D; ComponentLink1URL: http://www.micron.com/; ComponentLink3URL: http://www.micron.com/~/media/Documents/Products/Data%20Sheet/DRAM/256Mb_sdr.pdf; Depth: 16Mb; Data Rate: PC133; PackageReference: MICT-BG-54; ComponentLink2URL: http://www.micron.com/~/media/Documents/Products/Data%20Sheet/DRAM/256Mb_sdr.pdf; Cycle Time: 7.5ns; Width: x16; Voltage: 3.3V; ComponentLink1Description: Manufacturer URL; Density: 256Mb; RoHS: Yes; DatasheetVersion: Rev.Q; ComponentLink2Description: Datasheet; Manufacturer Part Number 1: MT48LC16M16A2BG-75
footprint VFBGA54_8x8 (BGA, 54-Leads, Body 8.00x8.00mmx1.15mm, Pitch 0.80mm)
part A pins: A2 DQ15 (io) "Data input/output: Data bus for x16 (pins 4, 7, 10, 13, 42, 45, 48, and 51 are NC for x8; and pins 2, 4, 7, 8, 10, 13, 42, 45, 47, 48, 51, and 53 are NC for x4).", A8 DQ0 (io) "Data input/output: Data bus for x16 (pins 4, 7, 10, 13, 42, 45, 48, and 51 are NC for x8; and pins 2, 4, 7, 8, 10, 13, 42, 45, 47, 48, 51, and 53 are NC for x4).", B1 DQ14 (io) "Data input/output: Data bus for x16 (pins 4, 7, 10, 13, 42, 45, 48, and 51 are NC for x8; and pins 2, 4, 7, 8, 10, 13, 42, 45, 47, 48, 51, and 53 are NC for x4).", B2 DQ13 (io) "Data input/output: Data bus for x16 (pins 4, 7, 10, 13, 42, 45, 48, and 51 are NC for x8; and pins 2, 4, 7, 8, 10, 13, 42, 45, 47, 48, 51, and 53 are NC for x4).", B8 DQ2 (io) "Data input/output: Data bus for x16 (pins 4, 7, 10, 13, 42, 45, 48, and 51 are NC for x8; and pins 2, 4, 7, 8, 10, 13, 42, 45, 47, 48, 51, and 53 are NC for x4).", B9 DQ1 (io) "Data input/output: Data bus for x16 (pins 4, 7, 10, 13, 42, 45, 48, and 51 are NC for x8; and pins 2, 4, 7, 8, 10, 13, 42, 45, 47, 48, 51, and 53 are NC for x4).", C1 DQ12 (io) "Data input/output: Data bus for x16 (pins 4, 7, 10, 13, 42, 45, 48, and 51 are NC for x8; and pins 2, 4, 7, 8, 10, 13, 42, 45, 47, 48, 51, and 53 are NC for x4).", C2 DQ11 (io) "Data input/output: Data bus for x16 (pins 4, 7, 10, 13, 42, 45, 48, and 51 are NC for x8; and pins 2, 4, 7, 8, 10, 13, 42, 45, 47, 48, 51, and 53 are NC for x4).", C8 DQ4 (io) "Data input/output: Data bus for x16 (pins 4, 7, 10, 13, 42, 45, 48, and 51 are NC for x8; and pins 2, 4, 7, 8, 10, 13, 42, 45, 47, 48, 51, and 53 are NC for x4).", C9 DQ3 (io) "Data input/output: Data bus for x16 (pins 4, 7, 10, 13, 42, 45, 48, and 51 are NC for x8; and pins 2, 4, 7, 8, 10, 13, 42, 45, 47, 48, 51, and 53 are NC for x4).", D1 DQ10 (io) "Data input/output: Data bus for x16 (pins 4, 7, 10, 13, 42, 45, 48, and 51 are NC for x8; and pins 2, 4, 7, 8, 10, 13, 42, 45, 47, 48, 51, and 53 are NC for x4).", D2 DQ9 (io) "Data input/output: Data bus for x16 (pins 4, 7, 10, 13, 42, 45, 48, and 51 are NC for x8; and pins 2, 4, 7, 8, 10, 13, 42, 45, 47, 48, 51, and 53 are NC for x4).", D8 DQ6 (io) "Data input/output: Data bus for x16 (pins 4, 7, 10, 13, 42, 45, 48, and 51 are NC for x8; and pins 2, 4, 7, 8, 10, 13, 42, 45, 47, 48, 51, and 53 are NC for x4).", D9 DQ5 (io) "Data input/output: Data bus for x16 (pins 4, 7, 10, 13, 42, 45, 48, and 51 are NC for x8; and pins 2, 4, 7, 8, 10, 13, 42, 45, 47, 48, 51, and 53 are NC for x4).", E1 DQ8 (io) "Data input/output: Data bus for x16 (pins 4, 7, 10, 13, 42, 45, 48, and 51 are NC for x8; and pins 2, 4, 7, 8, 10, 13, 42, 45, 47, 48, 51, and 53 are NC for x4).", E2 NC "These should be left unconnected. For x4 and x8 parts, G1 is a no connect, but may be used as A12 in future designs", E8 LDQM (in) "Input/output mask: DQM is sampled HIGH and is an input mask signal for write accesses and an output enable signal for read accesses. Input data is masked during a WRITE cycle. The output buffers are High-Z (two-clock (See Datasheet)", E9 DQ7 (io) "Data input/output: Data bus for x16 (pins 4, 7, 10, 13, 42, 45, 48, and 51 are NC for x8; and pins 2, 4, 7, 8, 10, 13, 42, 45, 47, 48, 51, and 53 are NC for x4).", F1 UDQM (in) "Input/output mask: DQM is sampled HIGH and is an input mask signal for write accesses and an output enable signal for read accesses. Input data is masked during a WRITE cycle. The output buffers are High-Z (two-clock (See Datasheet)", F2 CLK (in) "Clock: CLK is driven by the system clock. All SDRAM input signals are sampled on the positive edge of CLK. CLK also increments the internal burst counter and controls the output registers.", F3 CKE (in) "Clock enable: CKE activates (HIGH) and deactivates (LOW) the CLK signal. Deactivating the clock provides precharge power-down and SELF REFRESH operation (all banks idle), active power-down (row active in any bank), or CLOCK (See Datasheet)", F7 CAS# (in) "Command inputs: RAS#, CAS#, and WE# (along with CS#) define the command being entered.", F8 RAS# (in) "Command inputs: RAS#, CAS#, and WE# (along with CS#) define the command being entered.", F9 WE# (in) "Command inputs: RAS#, CAS#, and WE# (along with CS#) define the command being entered.", G1 A12 (in) "Address inputs: A[12:0] are sampled during the ACTIVE command (row address A[12:0]) and READ or WRITE command (column address A[9:0] and A11 for x4; A[9:0] for x8; A[8:0] for x16; with A10 defining auto precharge) to select (See Datasheet)", G2 A11 (in) "Address inputs: A[12:0] are sampled during the ACTIVE command (row address A[12:0]) and READ or WRITE command (column address A[9:0] and A11 for x4; A[9:0] for x8; A[8:0] for x16; with A10 defining auto precharge) to select (See Datasheet)", G3 A9 (in) "Address inputs: A[12:0] are sampled during the ACTIVE command (row address A[12:0]) and READ or WRITE command (column address A[9:0] and A11 for x4; A[9:0] for x8; A[8:0] for x16; with A10 defining auto precharge) to select (See Datasheet)", G7 BA0 (in) "Bank address input(s): BA[1:0] define to which bank the ACTIVE, READ, WRITE, or PRECHARGE command is being applied.", G8 BA1 (in) "Bank address input(s): BA[1:0] define to which bank the ACTIVE, READ, WRITE, or PRECHARGE command is being applied.", G9 CS# (in) "Chip select: CS# enables (registered LOW) and disables (registered HIGH) the command decoder. All commands are masked when CS# is registered HIGH, but READ/WRITE bursts already in progress will continue, and DQM operation (See Datasheet)", H1 A8 (in) "Address inputs: A[12:0] are sampled during the ACTIVE command (row address A[12:0]) and READ or WRITE command (column address A[9:0] and A11 for x4; A[9:0] for x8; A[8:0] for x16; with A10 defining auto precharge) to select (See Datasheet)", H2 A7 (in) "Address inputs: A[12:0] are sampled during the ACTIVE command (row address A[12:0]) and READ or WRITE command (column address A[9:0] and A11 for x4; A[9:0] for x8; A[8:0] for x16; with A10 defining auto precharge) to select (See Datasheet)", H3 A6 (in) "Address inputs: A[12:0] are sampled during the ACTIVE command (row address A[12:0]) and READ or WRITE command (column address A[9:0] and A11 for x4; A[9:0] for x8; A[8:0] for x16; with A10 defining auto precharge) to select (See Datasheet)", H7 A0 (in) "Address inputs: A[12:0] are sampled during the ACTIVE command (row address A[12:0]) and READ or WRITE command (column address A[9:0] and A11 for x4; A[9:0] for x8; A[8:0] for x16; with A10 defining auto precharge) to select (See Datasheet)", H8 A1 (in) "Address inputs: A[12:0] are sampled during the ACTIVE command (row address A[12:0]) and READ or WRITE command (column address A[9:0] and A11 for x4; A[9:0] for x8; A[8:0] for x16; with A10 defining auto precharge) to select (See Datasheet)", H9 A10 (in) "Address inputs: A[12:0] are sampled during the ACTIVE command (row address A[12:0]) and READ or WRITE command (column address A[9:0] and A11 for x4; A[9:0] for x8; A[8:0] for x16; with A10 defining auto precharge) to select (See Datasheet)", J2 A5 (in) "Address inputs: A[12:0] are sampled during the ACTIVE command (row address A[12:0]) and READ or WRITE command (column address A[9:0] and A11 for x4; A[9:0] for x8; A[8:0] for x16; with A10 defining auto precharge) to select (See Datasheet)", J3 A4 (in) "Address inputs: A[12:0] are sampled during the ACTIVE command (row address A[12:0]) and READ or WRITE command (column address A[9:0] and A11 for x4; A[9:0] for x8; A[8:0] for x16; with A10 defining auto precharge) to select (See Datasheet)", J7 A3 (in) "Address inputs: A[12:0] are sampled during the ACTIVE command (row address A[12:0]) and READ or WRITE command (column address A[9:0] and A11 for x4; A[9:0] for x8; A[8:0] for x16; with A10 defining auto precharge) to select (See Datasheet)", J8 A2 (in) "Address inputs: A[12:0] are sampled during the ACTIVE command (row address A[12:0]) and READ or WRITE command (column address A[9:0] and A11 for x4; A[9:0] for x8; A[8:0] for x16; with A10 defining auto precharge) to select (See Datasheet)"
part B pins: A1 VSS (power) "Ground.", A3 VSSQ (power) "DQ ground: DQ ground to the die for improved noise immunity.", A7 VDDQ (power) "DQ power: DQ power to the die for improved noise immunity.", A9 VDD (power) "Power supply: +3.3V +/-0.3V.", B3 VDDQ (power) "DQ power: DQ power to the die for improved noise immunity.", B7 VSSQ (power) "DQ ground: DQ ground to the die for improved noise immunity.", C3 VSSQ (power) "DQ ground: DQ ground to the die for improved noise immunity.", C7 VDDQ (power) "DQ power: DQ power to the die for improved noise immunity.", D3 VDDQ (power) "DQ power: DQ power to the die for improved noise immunity.", D7 VSSQ (power) "DQ ground: DQ ground to the die for improved noise immunity.", E3 VSS (power) "Ground.", E7 VDD (power) "Power supply: +3.3V +/-0.3V.", J1 VSS (power) "Ground.", J9 VDD (power) "Power supply: +3.3V +/-0.3V."

## U_USB3343_QFN24
designator U?, comment USB3343-CP-TR
Enhanced Single Supply Hi-Speed USB ULPI Transceiver, 1.8 to 3.3 V, -40 to 85 degC, 24-Pin QFN, RoHS, Tape and Reel; Manufacturer: Microchip; Number of Transceivers: 1; Operating Supply Voltage (Max): 3.3V; Operating Supply Voltage (Min): 1.8V; Operating Supply Voltage (Typ): 2.5V; ESD Protection: Yes; Dual Supply Voltage (Typ): NotRequiredV; Rad Hardened: No; Operating Temperature (Max): 85C; Package Reference: QFN-24; Package Type: QFNEP; Operating Temperature (Min): -40C; Pin Count: 32; Manufacturer URL: http://www.microchip.com/; Packaging: TapeandReel; Datasheet URL: http://ww1.microchip.com/downloads/en/DeviceDoc/334x.pdf; Mounting: SurfaceMount; Dual Supply Voltage (Min): NotRequiredV; Operating Temperature Classification: Industrial; Package Description: 24-Pin Quad Flat No-lead Package, Body 4 x 4 mm, Pitch 0.5 mm, Thermal Pad 2.5x2.5mm; Datasheet Version: Rev. 1.2, 02/2013; Mounting Technology: SurfaceMount; Dual Supply Voltage (Max): NotRequiredV; Power Supply Requirement: Single; Manufacturer Part Number: USB3343-CP-TR
footprint MCHP-QFN-24_A_V (QFN, 24-Leads, Body 4.15x4.15mm, Pitch 0.5mm, Thermal Pad 2.5x2.5mm)
pins: 1 DIR (hiz) "Controls the direction of the data bus.", 2 CLKOUT (hiz) "60MHz ULPI clock output.", 3 NXT (out) "The PHY asserts NXT to throttle the data", 4 DATA[0] (io) "ULPI bi-directional data bus. DATA[0] is the LSB.", 5 DATA[1] (io) "ULPI bi-directional data bus.", 6 DATA[2] (io) "ULPI bi-directional data bus.", 7 DATA[3] (io) "ULPI bi-directional data bus.", 8 DATA[4] (io) "ULPI bi-directional data bus.", 9 VDDIO (power) "ULPI interface supply voltage. When RESETB is low and VDDIO is powered on, ULPI pins will tri-state.", 10 DATA[5] (io) "ULPI bi-directional data bus.", 11 DATA[6] (io) "ULPI bi-directional data bus.", 12 DATA[7] (io) "ULPI bi-directional data bus. DATA[7] is the MSB.", 13 DP (io) "D+ pin of the USB cable.", 14 DM (io) "D- pin of the USB cable.", 15 VDD33 (power) "3.3V Regulator Output.", 16 VBAT (power) "Regulator input. The regulator supply can be from 5.5V to 3.0V.", 17 VBUS (power) "This pin is used for the VBUS comparator inputs and for VBUS pulsing during session request protocol. An external resistor, RVBUS, is required between this pin and the USB connector.", 18 ID (in) "For device applications the ID pin is connected to VDD33. For Host applications ID is grounded. For OTG applications the ID pin is connected to the USB connector.", 19 RBIAS "Bias Resistor pin. This pin requires an 8.06k ohm (+/-1%) resistor to ground, placed as close as possible to the USB334x. Nominal voltage during ULPI operation is 0.8V.", 20 XO "Crystal pin. If using an external clock on REFCLK / XI, this pin should be floated.", 21 REFCLK/XI (in), 22 RESETB (in) "When low, the part is suspended and the 3.3V and 1.8V regulators are disabled.", 23 VDD18 (power) "1.8V Regulator Output.", 24 STP (in) "The Link asserts STP for one clock cycle to stop the data stream currently on the bus.", 25 GND (power) "Ground."

## X_13.000MHZ_18pF_3225
designator X?, comment 13MHz
X-tal, 13.000MHz, Cl=20pF, +-18ppm, 3225; Manufacturer: ABRACON Co; Manufacturer_No: ABM8G-13.000MHZ-B4Y-T; PB-free: Yes; HelpURL: http://www.abracon.com/Resonators/ABM8G.pdf; Distributor: Future; Dist_No: ABM8G-13.000MHZ-B4Y-T; Price: 0.462; Supplier 1: Digi-Key; Supplier Part Number 1: 535-10285-2-ND
footprint XTAL_3.2mmx2.5mm (Crystal 3.2mm x 2.5mm)
pins: 1, 2 GND, 3, 4 GND

## X_26.000MHZ_6pF_2016
designator X?, comment 26MHz
X-tal, 26.000MHz, Cl=6pF, +-18ppm, 2.0 x 1.6mm; Manufacturer: muRata; Manufacturer_No: XRCGB26M000F2P00R0; PB-free: Yes; HelpURL: https://www.murata.com/~/media/webrenewal/support/library/catalog/products/timingdevice/crystalu/p79e.ashx?la=en-us; Distributor: Future; Dist_No: XRCGB26M000F2P00R0; Price: .24; Supplier 1: Digi-Key; Supplier Part Number 1: 490-9764-1-ND; ComponentLink1Description: Datasheet; ComponentLink1URL: https://www.murata.com/~/media/webrenewal/support/library/catalog/products/timingdevice/crystalu/p79e.ashx?la=en-us
footprint XTAL_2.0mmx1.6mm (Crystal 2.0mm x 1.6mm)
pins: 1, 2 GND, 3, 4 GND